# Altium footprint library THACH_ANH_12M.PcbLib: 1 footprints
Each footprint in its own frame and in the unit in brackets; x right, y up, seen from the top. Pads: shape width x height; smd on the part's side, far side on the other; paste and mask are expansions set on the pad; w line width, h text height; cw(c..) or ccw(c..) is an arc to the next point about the centre after c.
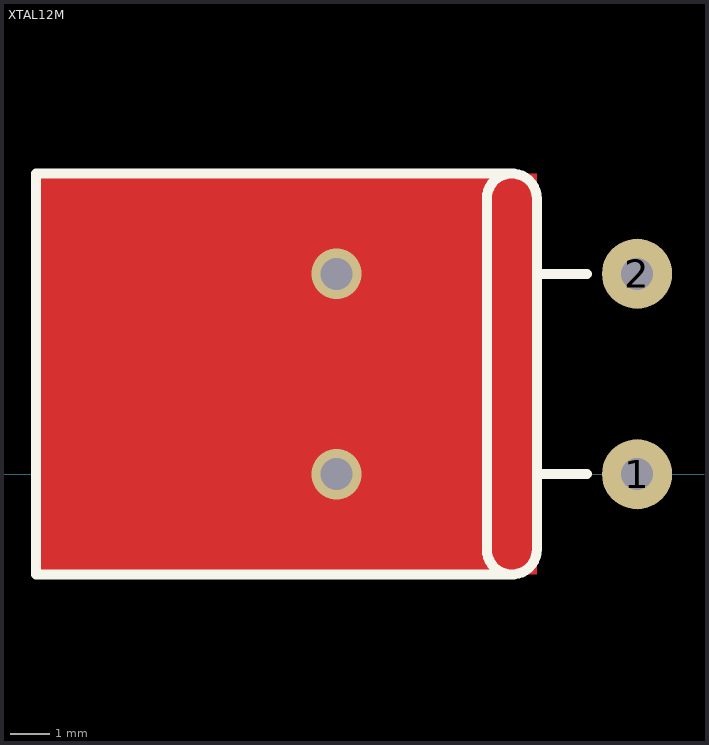
[diagram p0: the footprint, top view; thin cyan lines are the x and y axes]

## XTAL12M [mil]
pads (2):
  round 70 hole 32: 1(770,0) 2(770,200)
via 470,200 diameter 50 hole 32
via 470,0 diameter 50 hole 32
Top Layer:
  rectangle: 170,-100 670,300
Top Overlay:
  lines w10: 645,-100 170,-100 170,300 645,300 ; 670,0 720,0 ; 670,200 720,200 ; 620,-75 ccw(c645,-75) 670,-75 670,275 ccw(c645,275) 620,275 620,-75
Top Solder:
  rectangle: 170,-100 670,300